# EAGLE library part PMS7003 (library my_devices)
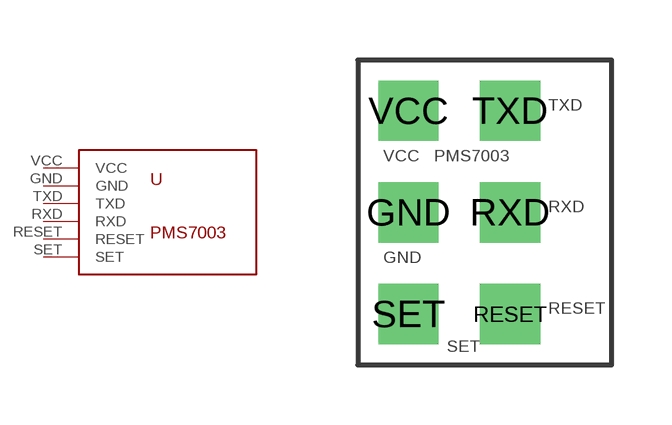
[diagram p0: symbol with the pads of PMS7003_J; footprint PMS7003_J]

Designator prefix U

## PMS7003  [PMS7003_J]
GND  GND  sup
RESET  RESET
RXD  RXD
SET  SET
TXD  TXD
VCC  VCC  sup

## Footprint PMS7003_J (pad centres in mm)
drill 1 square: GND -1.27,-1.27; RESET 1.27,-3.81; RXD 1.27,-1.27; SET -1.27,-3.81; TXD 1.27,1.27; VCC -1.27,1.27